# Altium integrated library RJ45 HR911130A.IntLib: 1 symbol
Pins are listed as number, name and electrical type; pins without a type are passive.

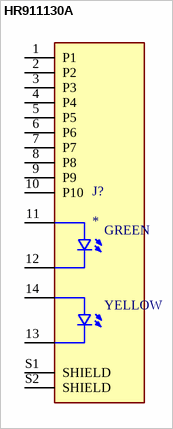
[diagram p0: symbol HR911130A]

## HR911130A
designator J?
MF: hanrun; MP: HR911130A; SnapEDA_Link: https://www.snapeda.com/parts/HR911130A/HanRun/view-part/?ref=snap; Package: None; Value: *; Check_prices: https://www.snapeda.com/parts/HR911130A/HanRun/view-part/?ref=eda
footprint HANRUN_HR911130A
pins: 1 P1, 2 P2, 3 P3, 4 P4, 5 P5, 6 P6, 7 P7, 8 P8, 9 P9, 10 P10, 11, 12, 13, 14, S1 SHIELD, S2 SHIELD
text: GREEN; YELLOW